# EAGLE library part PICO-CLASP-1X06 (library WarthogRobotics-Connectors)
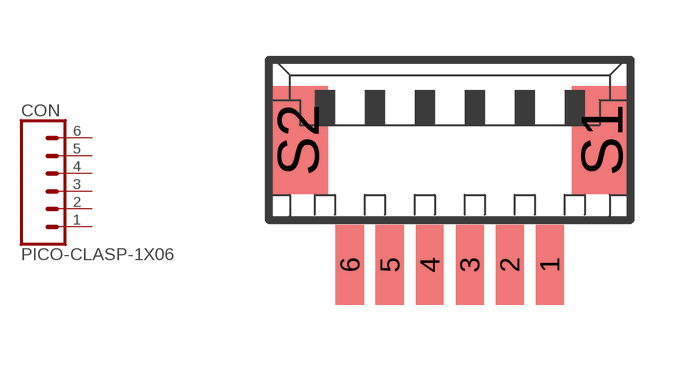
[diagram p2: symbol with the pads of 501331-0607; footprint 501331-0607]

Designator prefix CON

## PICO-CLASP-1X06  [501331-0607]
1  1  pas
2  2  pas
3  3  pas
4  4  pas
5  5  pas
6  6  pas

## Footprint 501331-0607 (pad centres in mm)
1.25mm Pitch PicoBlade™ Header, Surface Mount, Right Angle, 6 Circuits Datasheet <http://www.molex.com/pdm_docs/sd/532610671_sd.pdf>
smd 0.7 x 2: 1 2.5,-2.5; 2 1.5,-2.5; 3 0.5,-2.5; 4 -0.5,-2.5; 5 -1.5,-2.5; 6 -2.5,-2.5
smd 1.5 x 2.7: S1 3.8,0.625; S2 -3.8,0.625